# Altium schematic symbol library IC_Analog_Devices_Inc_ADV7180BSTZ_eec.SchLib: 1 symbol
Pins are listed as number, name and electrical type; pins without a type are passive.

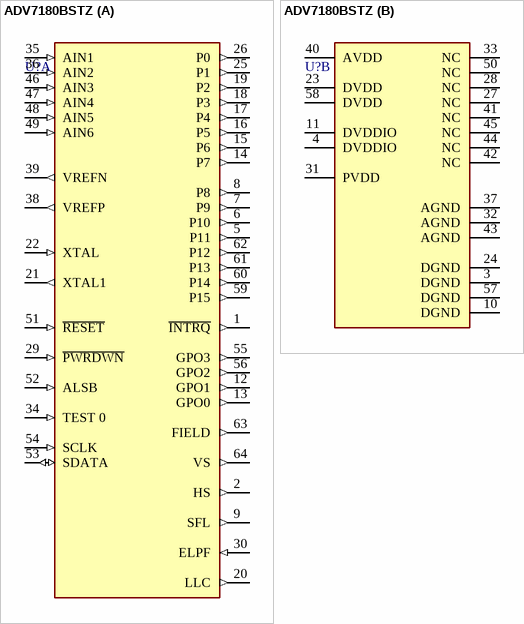
[diagram p0: symbol ADV7180BSTZ]

## ADV7180BSTZ
designator U?  (value not drawn)
part A pins: 1 ~{INTRQ} (out), 2 HS (out), 5 P11 (out), 6 P10 (out), 7 P9 (out), 8 P8 (out), 9 SFL (out), 12 GPO1 (out), 13 GPO0 (out), 14 P7 (out), 15 P6 (out), 16 P5 (out), 17 P4 (out), 18 P3 (out), 19 P2 (out), 20 LLC (out), 21 XTAL1 (out), 22 XTAL (in), 25 P1 (out), 26 P0 (out), 29 ~{PWRDWN} (in), 30 ELPF (in), 34 TEST 0 (in), 35 AIN1 (in), 36 AIN2 (in), 38 VREFP (out), 39 VREFN (out), 46 AIN3 (in), 47 AIN4 (in), 48 AIN5 (in), 49 AIN6 (in), 51 ~{RESET} (in), 52 ALSB (in), 53 SDATA (io), 54 SCLK (in), 55 GPO3 (out), 56 GPO2 (out), 59 P15 (out), 60 P14 (out), 61 P13 (out), 62 P12 (out), 63 FIELD (out), 64 VS (out)
part B pins: 3 DGND (power), 4 DVDDIO (power), 10 DGND, 11 DVDDIO, 23 DVDD (power), 24 DGND (power), 27 NC, 28 NC, 31 PVDD (power), 32 AGND (power), 33 NC, 37 AGND (power), 40 AVDD (power), 41 NC, 42 NC, 43 AGND (power), 44 NC, 45 NC, 50 NC, 57 DGND (power), 58 DVDD (power)